# EAGLE library part AD9708 (library ICs)
Digital to Analogue Converter, 8 bit, 125 MSPS, Parallel, 2.7V to 5.5V, TSSOP, 28 Pins
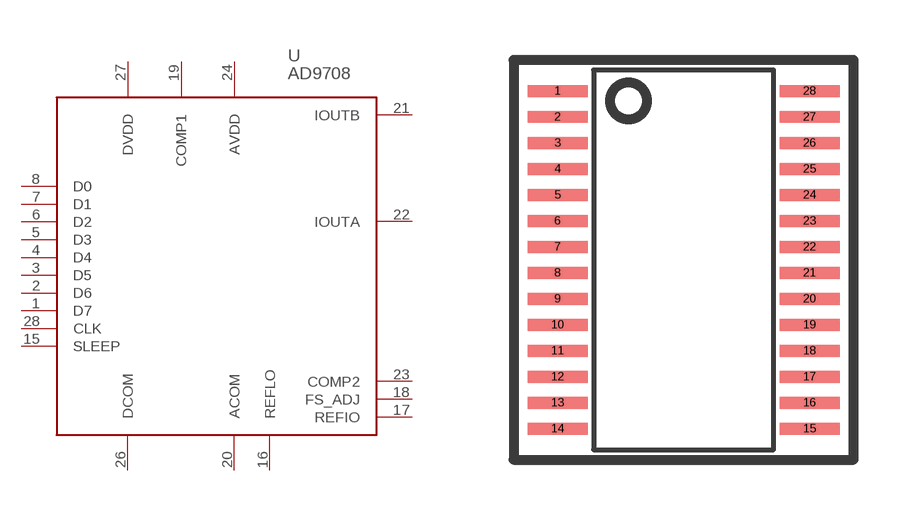
[diagram p123: symbol with the pads of SSOP28-4.5MM; footprint SSOP28-4.5MM]

Designator prefix U

## AD9708 (FARNELL: 2305696; PRICE_PER: 4.75; VALUE: AD9708)  [SSOP28-4.5MM]
1  D7
2  D6
3  D5
4  D4
5  D3
6  D2
7  D1
8  D0
15  SLEEP
16  REFLO
17  REFIO
18  FS_ADJ
19  COMP1
20  ACOM
21  IOUTB
22  IOUTA
23  COMP2
24  AVDD
26  DCOM
27  DVDD
28  CLK

## Footprint SSOP28-4.5MM (pad centres in mm)
smd 1.5 x 0.3: 1 -3.15,4.225; 2 -3.15,3.575; 3 -3.15,2.925; 4 -3.15,2.275; 5 -3.15,1.625; 6 -3.15,0.975; 7 -3.15,0.325; 8 -3.15,-0.325; 9 -3.15,-0.975; 10 -3.15,-1.625; 11 -3.15,-2.275; 12 -3.15,-2.925; 13 -3.15,-3.575; 14 -3.15,-4.225; 15 3.15,-4.225; 16 3.15,-3.575; 17 3.15,-2.925; 18 3.15,-2.275; 19 3.15,-1.625; 20 3.15,-0.975; 21 3.15,-0.325; 22 3.15,0.325; 23 3.15,0.975; 24 3.15,1.625; 25 3.15,2.275; 26 3.15,2.925; 27 3.15,3.575; 28 3.15,4.225